# EAGLE library part ATSAM3U4E (library atmel-avr32)
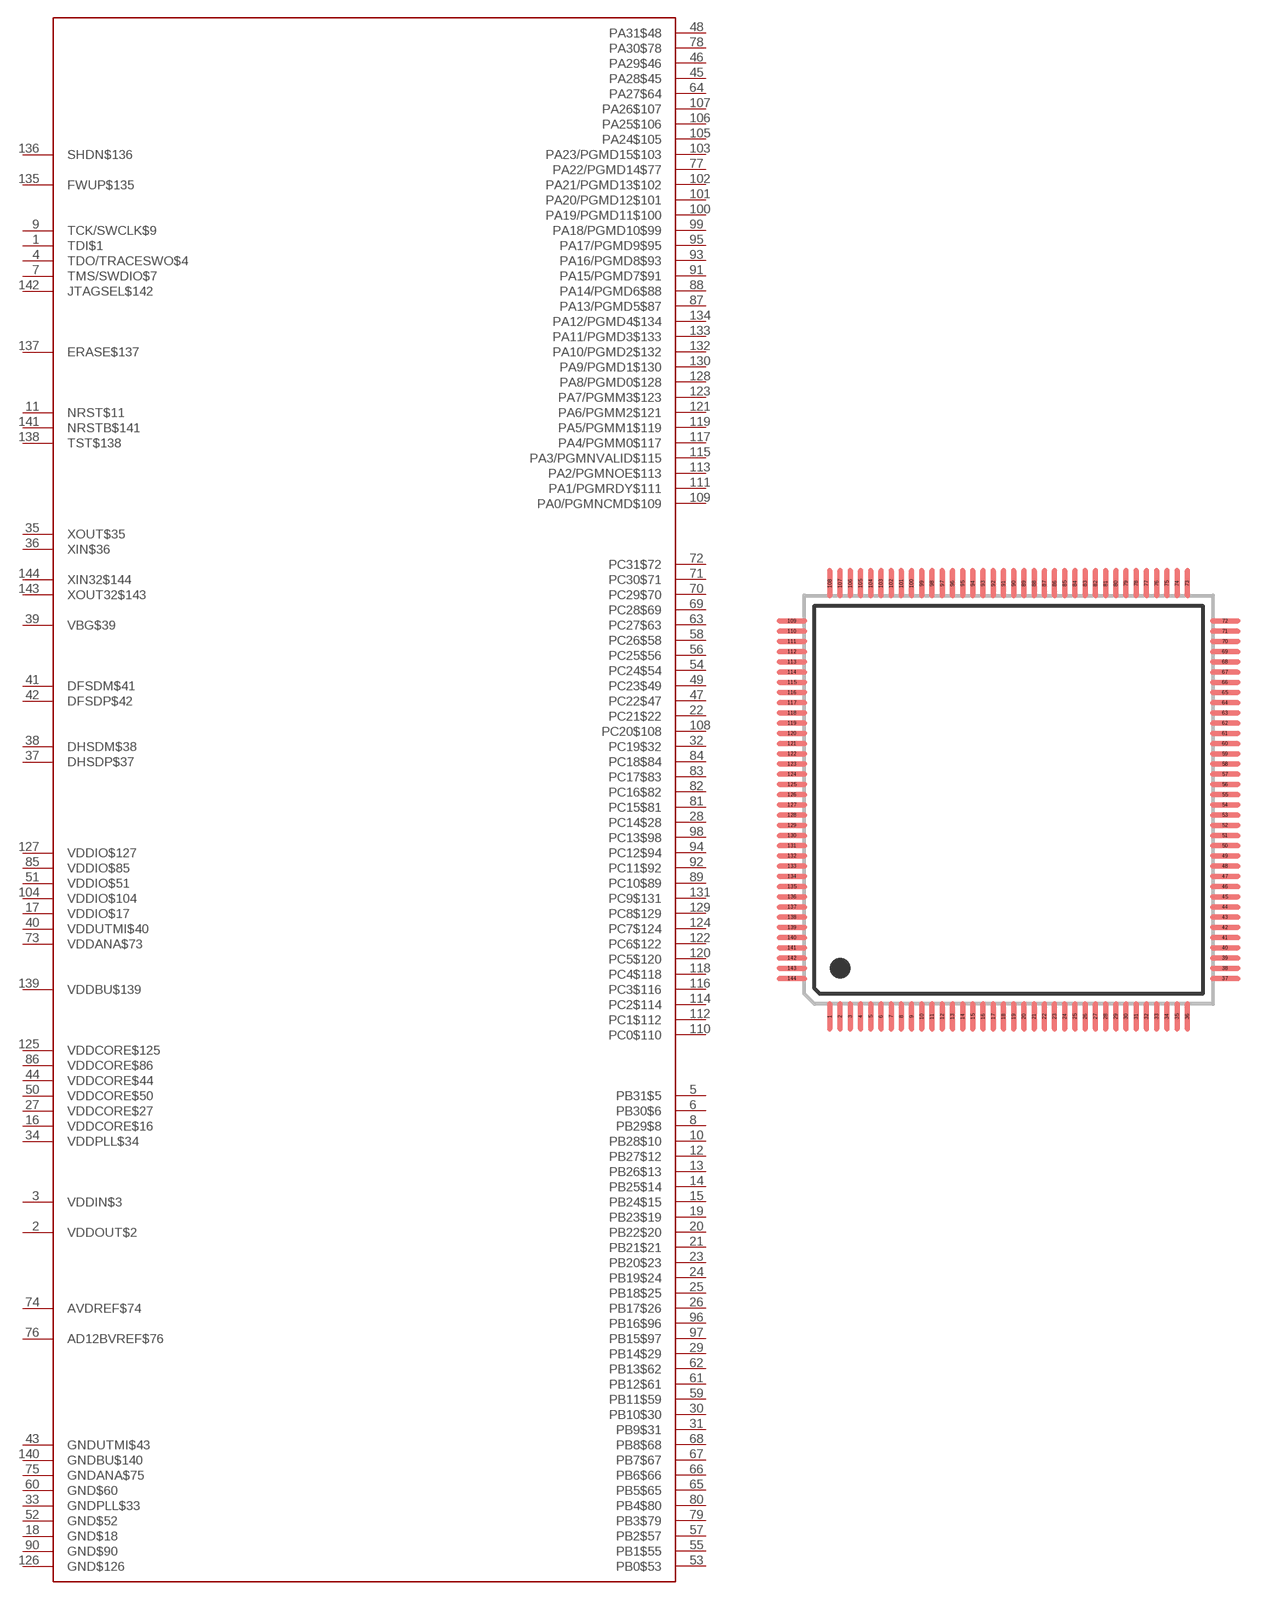
[diagram p3: symbol with the pads of LQFP144; footprint LQFP144]

Designator prefix -

## ATSAM3U4E  [LQFP144]
1  TDI$1
2  VDDOUT$2
3  VDDIN$3
4  TDO/TRACESWO$4
5  PB31$5
6  PB30$6
7  TMS/SWDIO$7
8  PB29$8
9  TCK/SWCLK$9
10  PB28$10
11  NRST$11
12  PB27$12
13  PB26$13
14  PB25$14
15  PB24$15
16  VDDCORE$16
17  VDDIO$17
18  GND$18
19  PB23$19
20  PB22$20
21  PB21$21
22  PC21$22
23  PB20$23
24  PB19$24
25  PB18$25
26  PB17$26
27  VDDCORE$27
28  PC14$28
29  PB14$29
30  PB10$30
31  PB9$31
32  PC19$32
33  GNDPLL$33
34  VDDPLL$34
35  XOUT$35
36  XIN$36
37  DHSDP$37
38  DHSDM$38
39  VBG$39
40  VDDUTMI$40
41  DFSDM$41
42  DFSDP$42
43  GNDUTMI$43
44  VDDCORE$44
45  PA28$45
46  PA29$46
47  PC22$47
48  PA31$48
49  PC23$49
50  VDDCORE$50
51  VDDIO$51
52  GND$52
53  PB0$53
54  PC24$54
55  PB1$55
56  PC25$56
57  PB2$57
58  PC26$58
59  PB11$59
60  GND$60
61  PB12$61
62  PB13$62
63  PC27$63
64  PA27$64
65  PB5$65
66  PB6$66
67  PB7$67
68  PB8$68
69  PC28$69
70  PC29$70
71  PC30$71
72  PC31$72
73  VDDANA$73
74  AVDREF$74
75  GNDANA$75
76  AD12BVREF$76
77  PA22/PGMD14$77
78  PA30$78
79  PB3$79
80  PB4$80
81  PC15$81
82  PC16$82
83  PC17$83
84  PC18$84
85  VDDIO$85
86  VDDCORE$86
87  PA13/PGMD5$87
88  PA14/PGMD6$88
89  PC10$89
90  GND$90
91  PA15/PGMD7$91
92  PC11$92
93  PA16/PGMD8$93
94  PC12$94
95  PA17/PGMD9$95
96  PB16$96
97  PB15$97
98  PC13$98
99  PA18/PGMD10$99
100  PA19/PGMD11$100
101  PA20/PGMD12$101
102  PA21/PGMD13$102
103  PA23/PGMD15$103
104  VDDIO$104
105  PA24$105
106  PA25$106
107  PA26$107
108  PC20$108
109  PA0/PGMNCMD$109
110  PC0$110
111  PA1/PGMRDY$111
112  PC1$112
113  PA2/PGMNOE$113
114  PC2$114
115  PA3/PGMNVALID$115
116  PC3$116
117  PA4/PGMM0$117
118  PC4$118
119  PA5/PGMM1$119
120  PC5$120
121  PA6/PGMM2$121
122  PC6$122
123  PA7/PGMM3$123
124  PC7$124
125  VDDCORE$125
126  GND$126
127  VDDIO$127
128  PA8/PGMD0$128
129  PC8$129
130  PA9/PGMD1$130
131  PC9$131
132  PA10/PGMD2$132
133  PA11/PGMD3$133
134  PA12/PGMD4$134
135  FWUP$135
136  SHDN$136
137  ERASE$137
138  TST$138
139  VDDBU$139
140  GNDBU$140
141  NRSTB$141
142  JTAGSEL$142
143  XOUT32$143
144  XIN32$144

## Footprint LQFP144 (pad centres in mm)
LQFP144 Package
smd 0.25 x 1.5: 1 -8.75,-10.6; 2 -8.25,-10.6; 3 -7.75,-10.6; 4 -7.25,-10.6; 5 -6.75,-10.6; 6 -6.25,-10.6; 7 -5.75,-10.6; 8 -5.25,-10.6; 9 -4.75,-10.6; 10 -4.25,-10.6; 11 -3.75,-10.6; 12 -3.25,-10.6; 13 -2.75,-10.6; 14 -2.25,-10.6; 15 -1.75,-10.6; 16 -1.25,-10.6; 17 -0.75,-10.6; 18 -0.25,-10.6; 19 0.25,-10.6; 20 0.75,-10.6; 21 1.25,-10.6; 22 1.75,-10.6; 23 2.25,-10.6; 24 2.75,-10.6; 25 3.25,-10.6; 26 3.75,-10.6; 27 4.25,-10.6; 28 4.75,-10.6; 29 5.25,-10.6; 30 5.75,-10.6; 31 6.25,-10.6; 32 6.75,-10.6; 33 7.25,-10.6; 34 7.75,-10.6; 35 8.25,-10.6; 36 8.75,-10.6; 73 8.75,10.6; 74 8.25,10.6; 75 7.75,10.6; 76 7.25,10.6; 77 6.75,10.6; 78 6.25,10.6; 79 5.75,10.6; 80 5.25,10.6; 81 4.75,10.6; 82 4.25,10.6; 83 3.75,10.6; 84 3.25,10.6; 85 2.75,10.6; 86 2.25,10.6; 87 1.75,10.6; 88 1.25,10.6; 89 0.75,10.6; 90 0.25,10.6; 91 -0.25,10.6; 92 -0.75,10.6; 93 -1.25,10.6; 94 -1.75,10.6; 95 -2.25,10.6; 96 -2.75,10.6; 97 -3.25,10.6; 98 -3.75,10.6; 99 -4.25,10.6; 100 -4.75,10.6; 101 -5.25,10.6; 102 -5.75,10.6; 103 -6.25,10.6; 104 -6.75,10.6; 105 -7.25,10.6; 106 -7.75,10.6; 107 -8.25,10.6; 108 -8.75,10.6
smd 1.5 x 0.25: 37 10.6,-8.75; 38 10.6,-8.25; 39 10.6,-7.75; 40 10.6,-7.25; 41 10.6,-6.75; 42 10.6,-6.25; 43 10.6,-5.75; 44 10.6,-5.25; 45 10.6,-4.75; 46 10.6,-4.25; 47 10.6,-3.75; 48 10.6,-3.25; 49 10.6,-2.75; 50 10.6,-2.25; 51 10.6,-1.75; 52 10.6,-1.25; 53 10.6,-0.75; 54 10.6,-0.25; 55 10.6,0.25; 56 10.6,0.75; 57 10.6,1.25; 58 10.6,1.75; 59 10.6,2.25; 60 10.6,2.75; 61 10.6,3.25; 62 10.6,3.75; 63 10.6,4.25; 64 10.6,4.75; 65 10.6,5.25; 66 10.6,5.75; 67 10.6,6.25; 68 10.6,6.75; 69 10.6,7.25; 70 10.6,7.75; 71 10.6,8.25; 72 10.6,8.75; 109 -10.6,8.75; 110 -10.6,8.25; 111 -10.6,7.75; 112 -10.6,7.25; 113 -10.6,6.75; 114 -10.6,6.25; 115 -10.6,5.75; 116 -10.6,5.25; 117 -10.6,4.75; 118 -10.6,4.25; 119 -10.6,3.75; 120 -10.6,3.25; 121 -10.6,2.75; 122 -10.6,2.25; 123 -10.6,1.75; 124 -10.6,1.25; 125 -10.6,0.75; 126 -10.6,0.25; 127 -10.6,-0.25; 128 -10.6,-0.75; 129 -10.6,-1.25; 130 -10.6,-1.75; 131 -10.6,-2.25; 132 -10.6,-2.75; 133 -10.6,-3.25; 134 -10.6,-3.75; 135 -10.6,-4.25; 136 -10.6,-4.75; 137 -10.6,-5.25; 138 -10.6,-5.75; 139 -10.6,-6.25; 140 -10.6,-6.75; 141 -10.6,-7.25; 142 -10.6,-7.75; 143 -10.6,-8.25; 144 -10.6,-8.75